# EAGLE library part LT1920 (library op-amp)
OP-AMP Instrumentation Amplifier
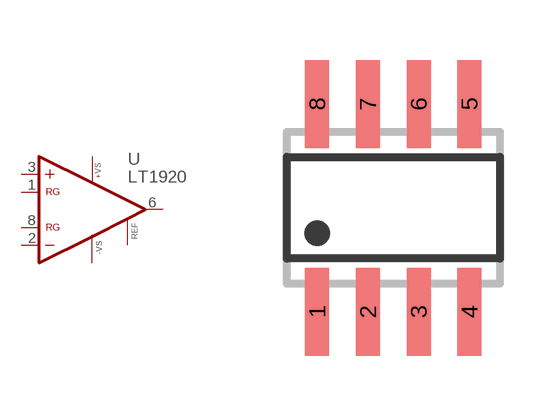
[diagram p93: symbol with the pads of SO08; footprint SO08]

Designator prefix U

## LT1920N8  [SO08]
1  RG  in
2  -IN  in
3  +IN  in
4  -VS  pwr
5  VREF  pwr
6  OUT  out
7  +VS  pwr
8  RG  in

## Footprint SO08 (pad centres in mm)
SMALL OUTLINE INTEGRATED CIRCUIT body 3.9 mm/JEDEC MS-012AA
smd 0.6 x 2.2: 1 -1.905,-2.6; 2 -0.635,-2.6; 3 0.635,-2.6; 4 1.905,-2.6; 5 1.905,2.6; 6 0.635,2.6; 7 -0.635,2.6; 8 -1.905,2.6